# Altium footprint library FM_MCU.PcbLib: 10 footprints
Each footprint in its own frame and in the unit in brackets; x right, y up, seen from the top. Pads: shape width x height; smd on the part's side, far side on the other; paste and mask are expansions set on the pad; w line width, h text height; cw(c..) or ccw(c..) is an arc to the next point about the centre after c.
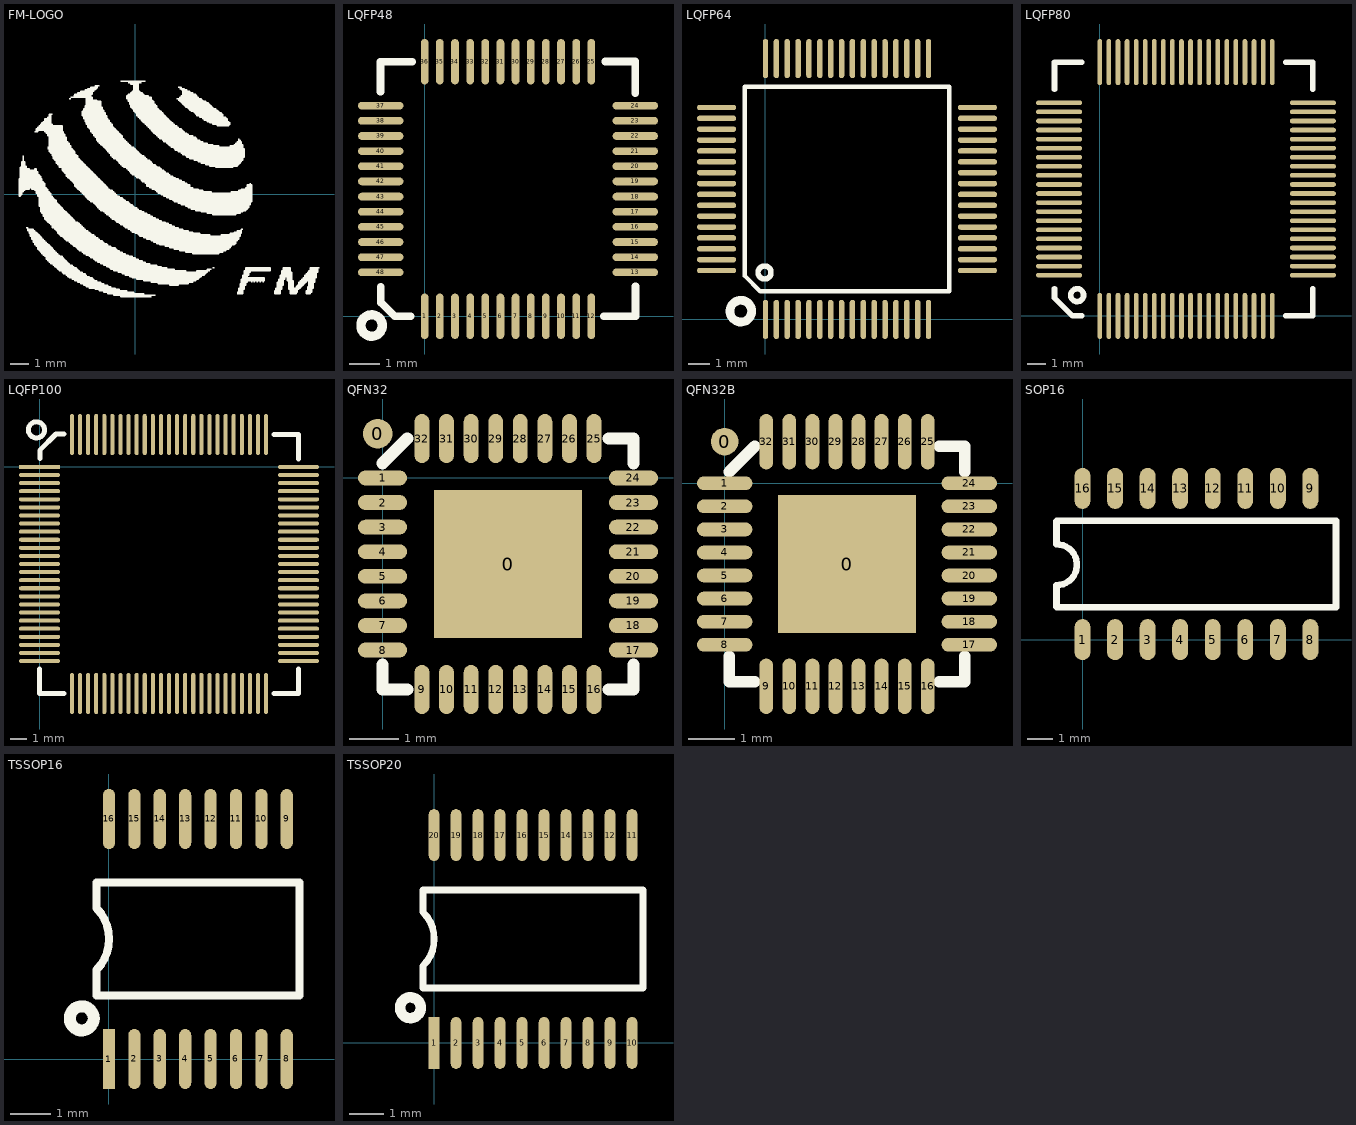
[diagram p0: the footprints below, top view; thin cyan lines are the x and y axes]

## FM-LOGO [mm]
Top Overlay:
  drawing of 1193 lines, arcs and shapes, not listed

## LQFP48 [mm]
pads (48):
  oval 0.254x1.5 smd: 1(0,0) 2(0.5,0) 3(1,0) 4(1.5,0) 5(2,0) 6(2.5,0) 7(3,0) 8(3.5,0) 9(4,0) 10(4.5,0) 11(5,0) 12(5.5,0) 25(5.5,8.4) 26(5,8.4) 27(4.5,8.4) 28(4,8.4) 29(3.5,8.4) 30(3,8.4) 31(2.5,8.4) 32(2,8.4) 33(1.5,8.4) 34(1,8.4) 35(0.5,8.4) 36(0,8.4)
  oval 1.5x0.254 smd: 13(6.95,1.45) 14(6.95,1.95) 15(6.95,2.45) 16(6.95,2.95) 17(6.95,3.45) 18(6.95,3.95) 19(6.95,4.45) 20(6.95,4.95) 21(6.95,5.45) 22(6.95,5.95) 23(6.95,6.45) 24(6.95,6.95) 37(-1.45,6.95) 38(-1.45,6.45) 39(-1.45,5.95) 40(-1.45,5.45) 41(-1.45,4.95) 42(-1.45,4.45) 43(-1.45,3.95) 44(-1.45,3.45) 45(-1.45,2.95) 46(-1.45,2.45) 47(-1.45,1.95) 48(-1.45,1.45)
Top Overlay:
  circle w0.305: c-1.751,-0.305 r0.354
  lines w0.254: -1.46,7.409 -1.46,8.4 -0.418,8.4 ; -1.448,0.965 -1.448,0.457 -0.991,0 -0.889,0 -0.457,0 ; 5.918,0 6.96,0 6.96,0.991 ; 5.959,8.41 6.95,8.41 6.95,7.368

## LQFP64 [mm]
pads (64):
  oval 0.25x1.8 smd: 1(0.002,-0.01) 2(0.502,-0.01) 3(1.002,-0.01) 4(1.502,-0.01) 5(2.002,-0.01) 6(2.502,-0.01) 7(3.002,-0.01) 8(3.502,-0.01) 9(4.002,-0.01) 10(4.502,-0.01) 11(5.002,-0.01) 12(5.502,-0.01) 13(6.002,-0.01) 14(6.502,-0.01) 15(7.002,-0.01) 16(7.502,-0.01) 33(7.502,11.99) 34(7.002,11.99) 35(6.502,11.99) 36(6.002,11.99) 37(5.502,11.99) 38(5.002,11.99) 39(4.502,11.99) 40(4.002,11.99) 41(3.502,11.99) 42(3.002,11.99) 43(2.502,11.99) 44(2.002,11.99) 45(1.502,11.99) 46(1.002,11.99) 47(0.502,11.99) 48(0.002,11.99)
  oval 1.8x0.25 smd: 17(9.752,2.24) 18(9.752,2.74) 19(9.752,3.24) 20(9.752,3.74) 21(9.752,4.24) 22(9.752,4.74) 23(9.752,5.24) 24(9.752,5.74) 25(9.752,6.24) 26(9.752,6.74) 27(9.752,7.24) 28(9.752,7.74) 29(9.752,8.24) 30(9.752,8.74) 31(9.752,9.24) 32(9.752,9.74) 49(-2.248,9.74) 50(-2.248,9.24) 51(-2.248,8.74) 52(-2.248,8.24) 53(-2.248,7.74) 54(-2.248,7.24) 55(-2.248,6.74) 56(-2.248,6.24) 57(-2.248,5.74) 58(-2.248,5.24) 59(-2.248,4.74) 60(-2.248,4.24) 61(-2.248,3.74) 62(-2.248,3.24) 63(-2.248,2.74) 64(-2.248,2.24)
Top Overlay:
  circle w0.25: c-0.044,2.149 r0.3
  circle w0.4: c-1.133,0.371 r0.5
  lines w0.2: -0.946,1.99 -0.946,10.69 8.454,10.69 8.454,1.29 -0.246,1.29 -0.946,1.99

## LQFP80 [mm]
height 9.6
pads (80):
  oval 0.254x2.54 smd: 1(0,0) 2(0.5,0) 3(1,0) 4(1.5,0) 5(2,0) 6(2.5,0) 7(3,0) 8(3.5,0) 9(4,0) 10(4.5,0) 11(5,0) 12(5.5,0) 13(6,0) 14(6.5,0) 15(7,0) 16(7.5,0) 17(8,0) 18(8.5,0) 19(9,0) 20(9.5,0) 41(9.5,14) 42(9,14) 43(8.5,14) 44(8,14) 45(7.5,14) 46(7,14) 47(6.5,14) 48(6,14) 49(5.5,14) 50(5,14) 51(4.5,14) 52(4,14) 53(3.5,14) 54(3,14) 55(2.5,14) 56(2,14) 57(1.5,14) 58(1,14) 59(0.5,14) 60(0,14)
  oval 2.54x0.254 smd: 21(11.75,2.25) 22(11.75,2.75) 23(11.75,3.25) 24(11.75,3.75) 25(11.75,4.25) 26(11.75,4.75) 27(11.75,5.25) 28(11.75,5.75) 29(11.75,6.25) 30(11.75,6.75) 31(11.75,7.25) 32(11.75,7.75) 33(11.75,8.25) 34(11.75,8.75) 35(11.75,9.25) 36(11.75,9.75) 37(11.75,10.25) 38(11.75,10.75) 39(11.75,11.25) 40(11.75,11.75) 61(-2.25,11.75) 62(-2.25,11.25) 63(-2.25,10.75) 64(-2.25,10.25) 65(-2.25,9.75) 66(-2.25,9.25) 67(-2.25,8.75) 68(-2.25,8.25) 69(-2.25,7.75) 70(-2.25,7.25) 71(-2.25,6.75) 72(-2.25,6.25) 73(-2.25,5.75) 74(-2.25,5.25) 75(-2.25,4.75) 76(-2.25,4.25) 77(-2.25,3.75) 78(-2.25,3.25) 79(-2.25,2.75) 80(-2.25,2.25)
Top Overlay:
  circle w0.305: c-1.25,1.146 r0.354
  lines w0.305: -2.5,1.5 -2.5,1 -1.5,0 ; -2.5,12.5 -2.5,14 -1,14 ; 10.25,14 11.75,14 11.75,12.5 ; 11.75,1.5 11.75,0 ; -1.5,0 -1,0 -1.5,0 ; 11.75,0 10.25,0 11.75,0

## LQFP100 [mm]
pads (100):
  rect 2.54x0.25 smd: 1(0,0)
  oval 2.54x0.25 smd: 2(0,-0.5) 3(0,-1) 4(0,-1.5) 5(0,-2) 6(0,-2.5) 7(0,-3) 8(0,-3.5) 9(0,-4) 10(0,-4.5) 11(0,-5) 12(0,-5.5) 13(0,-6) 14(0,-6.5) 15(0,-7) 16(0,-7.5) 17(0,-8) 18(0,-8.5) 19(0,-9) 20(0,-9.5) 21(0,-10) 22(0,-10.5) 23(0,-11) 24(0,-11.5) 25(0,-12) 51(16,-12) 52(16,-11.5) 53(16,-11) 54(16,-10.5) 55(16,-10) 56(16,-9.5) 57(16,-9) 58(16,-8.5) 59(16,-8) 60(16,-7.5) 61(16,-7) 62(16,-6.5) 63(16,-6) 64(16,-5.5) 65(16,-5) 66(16,-4.5) 67(16,-4) 68(16,-3.5) 69(16,-3) 70(16,-2.5) 71(16,-2) 72(16,-1.5) 73(16,-1) 74(16,-0.5) 75(16,0)
  oval 0.25x2.54 smd: 26(2,-14) 27(2.5,-14) 28(3,-14) 29(3.5,-14) 30(4,-14) 31(4.5,-14) 32(5,-14) 33(5.5,-14) 34(6,-14) 35(6.5,-14) 36(7,-14) 37(7.5,-14) 38(8,-14) 39(8.5,-14) 40(9,-14) 41(9.5,-14) 42(10,-14) 43(10.5,-14) 44(11,-14) 45(11.5,-14) 46(12,-14) 47(12.5,-14) 48(13,-14) 49(13.5,-14) 50(14,-14) 76(14,2) 77(13.5,2) 78(13,2) 79(12.5,2) 80(12,2) 81(11.5,2) 82(11,2) 83(10.5,2) 84(10,2) 85(9.5,2) 86(9,2) 87(8.5,2) 88(8,2) 89(7.5,2) 90(7,2) 91(6.5,2) 92(6,2) 93(5.5,2) 94(5,2) 95(4.5,2) 96(4,2) 97(3.5,2) 98(3,2) 99(2.5,2) 100(2,2)
Top Overlay:
  circle w0.305: c-0.19,2.29 r0.5
  lines w0.305: 1.5,-14 0,-14 ; 1.52,2.03 1.02,2.03 0.02,1.03 ; 14.5,2 16,2 ; 16,-12.5 16,-14 ; 0,-14 0,-12.5 0,-14 ; 0.02,1.03 0.02,0.53 0.02,1.03 ; 16,-14 14.5,-14 16,-14 ; 16,2 16,0.5 16,2

## QFN32 [mm]
pads (34):
  round 0.6 smd: 0(-0.1,0.9)
  rect 3x3 smd: 0(2.55,-1.75)
  oval 1x0.3 smd: 1(0,0) 2(0,-0.5) 3(0,-1) 4(0,-1.5) 5(0,-2) 6(0,-2.5) 7(0,-3) 8(0,-3.5) 17(5.1,-3.5) 18(5.1,-3) 19(5.1,-2.5) 20(5.1,-2) 21(5.1,-1.5) 22(5.1,-1) 23(5.1,-0.5) 24(5.1,0)
  oval 0.3x1 smd: 9(0.8,-4.3) 10(1.3,-4.3) 11(1.8,-4.3) 12(2.3,-4.3) 13(2.8,-4.3) 14(3.3,-4.3) 15(3.8,-4.3) 16(4.3,-4.3) 25(4.3,0.8) 26(3.8,0.8) 27(3.3,0.8) 28(2.8,0.8) 29(2.3,0.8) 30(1.8,0.8) 31(1.3,0.8) 32(0.8,0.8)
Top Overlay:
  lines w0.25: 0,-3.8 0,-4.3 0.5,-4.3 ; 0,0.3 0.5,0.8 ; 4.6,-4.3 5.1,-4.3 5.1,-3.8 ; 4.6,0.8 5.1,0.8 5.1,0.3

## QFN32B [mm]
pads (34):
  round 0.6 smd: 0(0,0.9)
  rect 3x3 smd: 0(2.65,-1.75)
  oval 1.2x0.3 smd: 1(0,0) 2(0,-0.5) 3(0,-1) 4(0,-1.5) 5(0,-2) 6(0,-2.5) 7(0,-3) 8(0,-3.5) 17(5.3,-3.5) 18(5.3,-3) 19(5.3,-2.5) 20(5.3,-2) 21(5.3,-1.5) 22(5.3,-1) 23(5.3,-0.5) 24(5.3,0)
  oval 0.3x1.2 smd: 9(0.9,-4.4) 10(1.4,-4.4) 11(1.9,-4.4) 12(2.4,-4.4) 13(2.9,-4.4) 14(3.4,-4.4) 15(3.9,-4.4) 16(4.4,-4.4) 25(4.4,0.9) 26(3.9,0.9) 27(3.4,0.9) 28(2.9,0.9) 29(2.4,0.9) 30(1.9,0.9) 31(1.4,0.9) 32(0.9,0.9)
Top Overlay:
  lines w0.25: 0.1,-3.75 0.1,-4.3 0.65,-4.3 ; 0.1,0.25 0.65,0.8 ; 4.65,-4.3 5.2,-4.3 5.2,-3.75 ; 4.65,0.8 5.2,0.8 5.2,0.25

## SOP16 [mm]
height 12.75
pads (16):
  oval 0.62x1.6 smd: 1(0,0) 2(1.27,0) 3(2.54,0) 4(3.81,0) 5(5.08,0) 6(6.35,0) 7(7.62,0) 8(8.89,0) 9(8.89,5.9) 10(7.62,5.9) 11(6.35,5.9) 12(5.08,5.9) 13(3.81,5.9) 14(2.54,5.9) 15(1.27,5.9) 16(0,5.9)
Top Overlay:
  lines w0.254: -1.016,1.286 -1.016,2.121 ccw(c-1.016,2.921) -1.016,3.721 -1.016,4.614 ; -1,1.27 9.89,1.27 9.89,4.63 -1,4.63

## TSSOP16 [mm]
pads (16):
  rect 0.305x1.5 smd: 1(0,0)
  oval 0.305x1.5 smd: 2(0.635,0) 3(1.27,0) 4(1.905,0) 5(2.54,0) 6(3.175,0) 7(3.81,0) 8(4.445,0) 9(4.445,6) 10(3.81,6) 11(3.175,6) 12(2.54,6) 13(1.905,6) 14(1.27,6) 15(0.635,6) 16(0,6)
Top Overlay:
  circle w0.3: c-0.681,1.016 r0.3
  lines w0.2: -0.318,1.585 -0.318,2.222 ccw(c-1.095,3) -0.317,3.778 -0.318,4.415 4.763,4.415 4.763,1.585 -0.318,1.585

## TSSOP20 [mm]
pads (20):
  rect 0.305x1.5 smd: 1(0,0)
  oval 0.305x1.5 smd: 2(0.635,0) 3(1.27,0) 4(1.905,0) 5(2.54,0) 6(3.175,0) 7(3.81,0) 8(4.445,0) 9(5.08,0) 10(5.715,0) 11(5.715,6) 12(5.08,6) 13(4.445,6) 14(3.81,6) 15(3.175,6) 16(2.54,6) 17(1.905,6) 18(1.27,6) 19(0.635,6) 20(0,6)
Top Overlay:
  circle w0.3: c-0.681,1.016 r0.3
  lines w0.2: -0.318,1.585 -0.318,2.222 ccw(c-1.095,3) -0.317,3.778 -0.318,4.415 6.032,4.415 6.032,1.585 -0.318,1.585